# EAGLE library part MPC8250_480PBGA (library MPC8250)
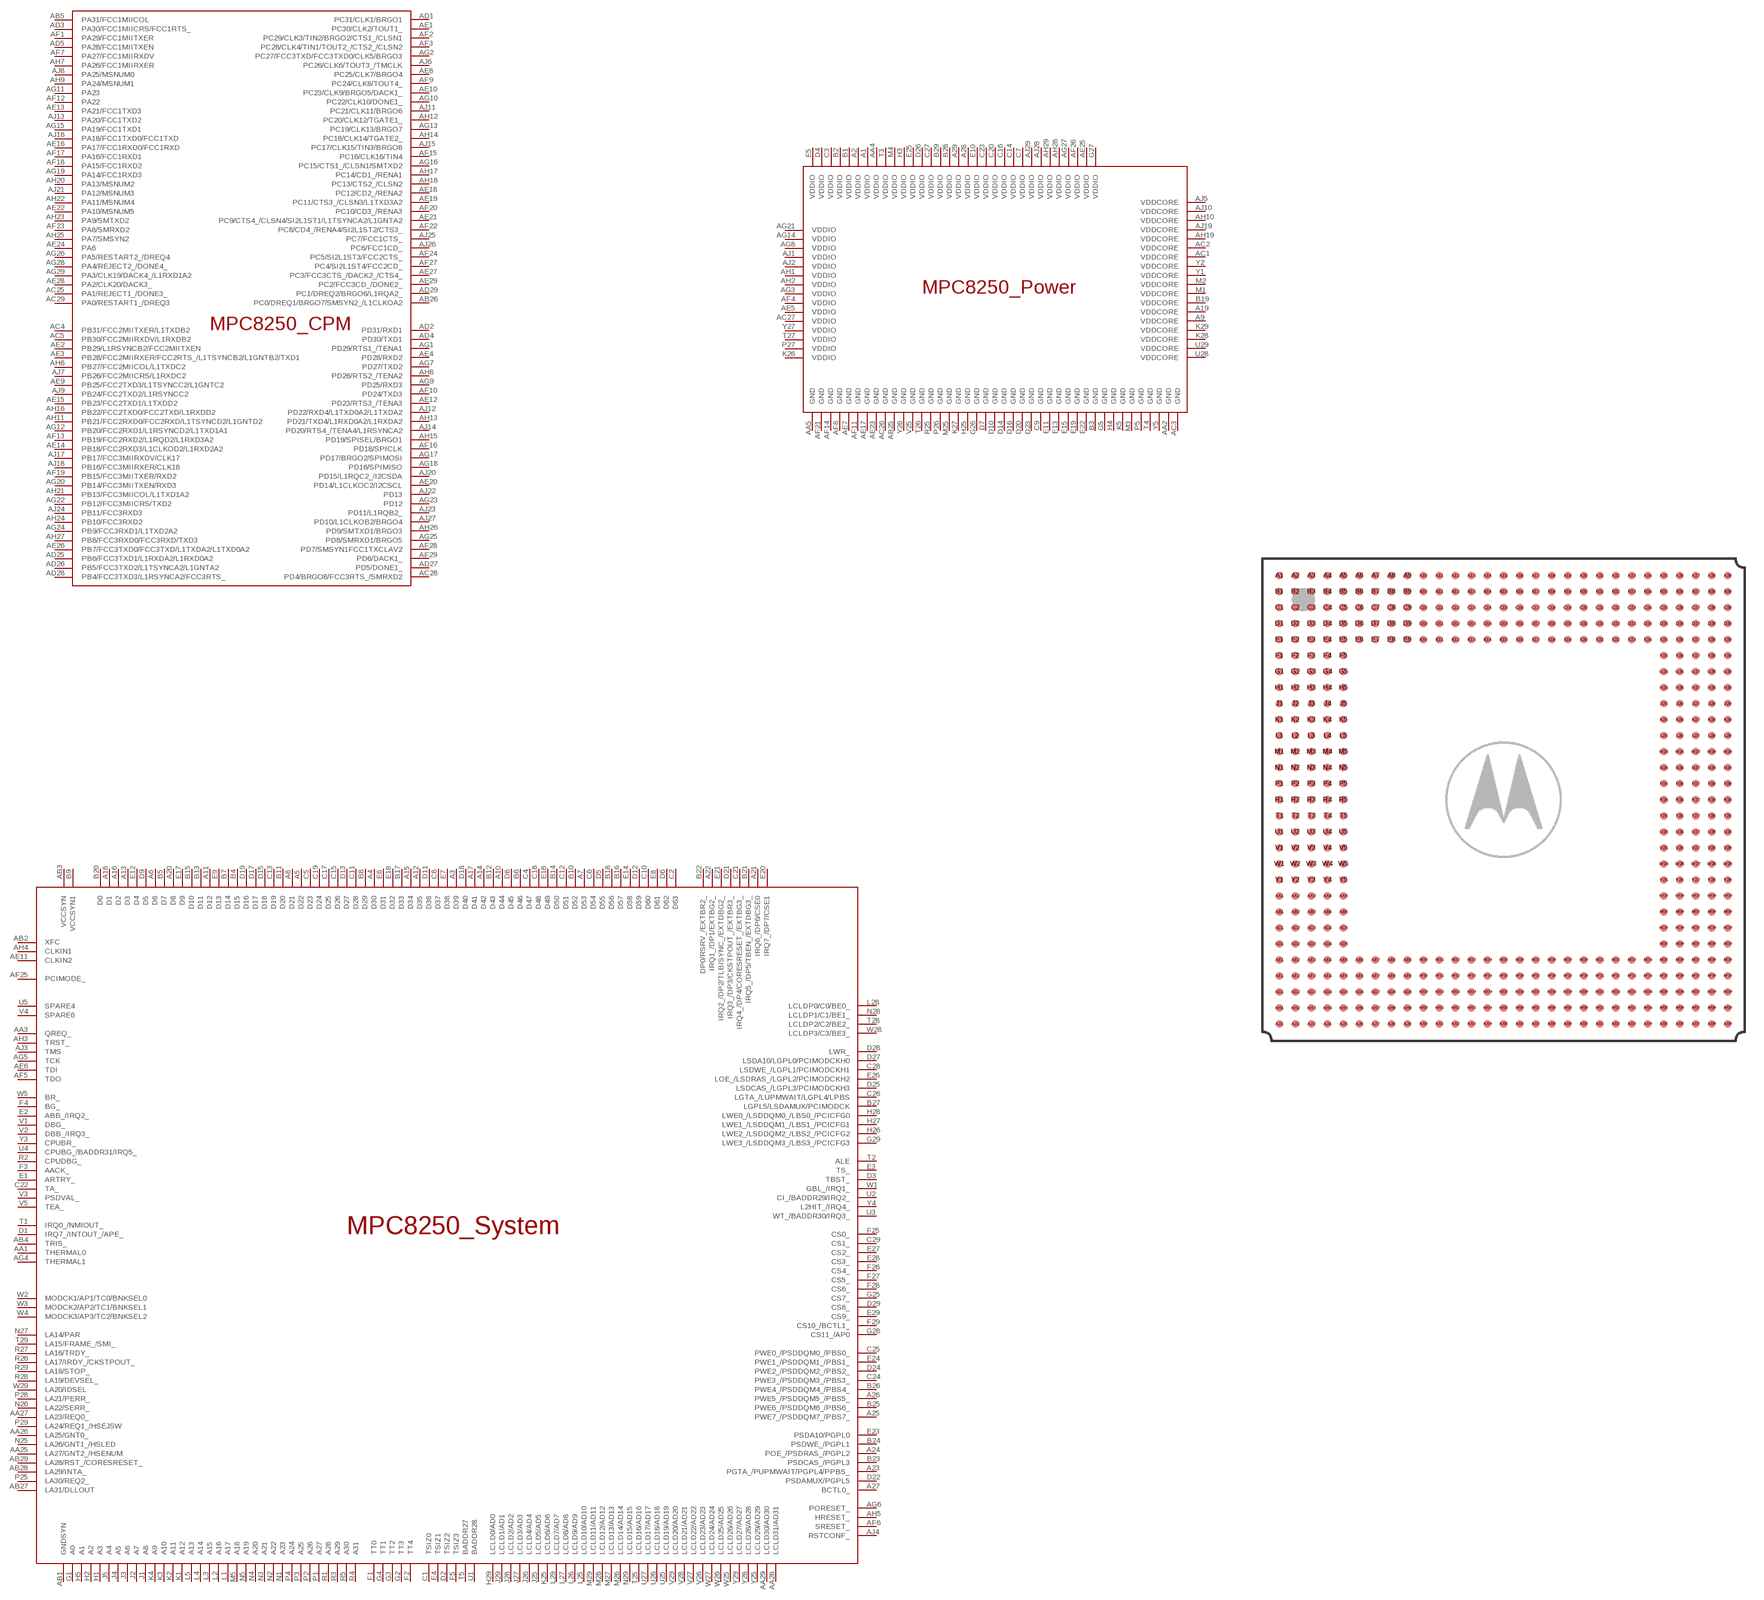
[diagram p0: symbol with the pads of TBGA480; footprint TBGA480]

Designator prefix -; gates SYSTEM=MPC8250 CPM=MPC8250_CPM POWER=MPC8250_POWER

## MPC8250_480PBGA  [TBGA480]
A1  POWER:VDDIO
A2  POWER:VDDIO
A3  SYSTEM:D39
A4  SYSTEM:D30
A5  SYSTEM:D22
A6  SYSTEM:D6
A7  SYSTEM:D53
A8  SYSTEM:D21
A9  POWER:VDDCORE
A10  SYSTEM:D44
A11  SYSTEM:D12
A12  SYSTEM:D35
A13  SYSTEM:D3
A14  SYSTEM:D42
A15  SYSTEM:D34
A16  SYSTEM:D2
A17  SYSTEM:D41
A18  SYSTEM:D1
A19  POWER:VDDCORE
A20  SYSTEM:D8
A21  SYSTEM:IRQ6_/DP6/CSE0
A22  SYSTEM:IRQ1_/DP1/EXTBG2_
A23  SYSTEM:PGTA_/PUPMWAIT/PGPL4/PPBS_
A24  SYSTEM:POE_/PSDRAS_/PGPL2
A25  SYSTEM:PWE7_/PSDDQM7_/PBS7_
A26  SYSTEM:PWE5_/PSDDQM5_/PBS5_
A27  SYSTEM:BCTL0_
A28  POWER:VDDIO
A29  POWER:VDDIO
AA1  SYSTEM:THERMAL0
AA2  POWER:GND
AA3  SYSTEM:QREQ_
AA4  POWER:VDDIO
AA5  POWER:GND
AA25  SYSTEM:LA27/GNT2_/HSENUM
AA26  SYSTEM:LA25/GNT0_
AA27  SYSTEM:LA23/REQ0_
AA28  SYSTEM:LCLD31/AD31
AA29  SYSTEM:LCLD30/AD30
AB1  SYSTEM:GNDSYN
AB2  SYSTEM:XFC
AB3  SYSTEM:VCCSYN
AB4  SYSTEM:TRIS_
AB5  CPM:PA31/FCC1MIICOL
AB25  POWER:GND
AB26  CPM:PC0/DREQ1/BRGO7/SMSYN2_/L1CLKOA2
AB27  SYSTEM:LA31/DLLOUT
AB28  SYSTEM:LA29/INTA_
AB29  SYSTEM:LA28/RST_/CORESRESET_
AC1  POWER:VDDCORE
AC2  POWER:VDDCORE
AC3  POWER:GND
AC4  CPM:PB31/FCC2MIITXER/L1TXDB2
AC5  CPM:PB30/FCC2MIIRXDV/L1RXDB2
AC25  CPM:PA1/REJECT1_/DONE3_
AC26  POWER:GND
AC27  POWER:VDDIO
AC28  CPM:PD4/BRGO8/FCC3RTS_/SMRXD2
AC29  CPM:PA0/RESTART1_/DREQ3
AD1  CPM:PC31/CLK1/BRGO1
AD2  CPM:PD31/RXD1
AD3  CPM:PA30/FCC1MIICRS/FCC1RTS_
AD4  CPM:PD30/TXD1
AD5  CPM:PA28/FCC1MIITXEN
AD25  CPM:PB6/FCC3TXD1/L1RXDA2/L1RXD0A2
AD26  CPM:PB5/FCC3TXD2/L1TSYNCA2/L1GNTA2
AD27  CPM:PD5/DONE1_
AD28  CPM:PB4/FCC3TXD3/L1RSYNCA2/FCC3RTS_
AD29  CPM:PC1/DREQ2/BRGO6/L1RQA2_
AE1  CPM:PC30/CLK2/TOUT1_
AE2  CPM:PB29/L1RSYNCB2/FCC2MIITXEN
AE3  CPM:PB28/FCC2MIIRXER/FCC2RTS_/L1TSYNCB2/L1GNTB2/TXD1
AE4  CPM:PD28/RXD2
AE5  POWER:VDDIO
AE6  SYSTEM:TDI
AE7  POWER:GND
AE8  CPM:PC25/CLK7/BRGO4
AE9  CPM:PB25/FCC2TXD3/L1TSYNCC2/L1GNTC2
AE10  CPM:PC23/CLK9/BRGO5/DACK1_
AE11  SYSTEM:CLKIN2
AE12  CPM:PD23/RTS3_/TENA3
AE13  CPM:PA21/FCC1TXD3
AE14  CPM:PB18/FCC2RXD3/L1CLKOD2/L1RXD2A2
AE15  CPM:PB23/FCC2TXD1/L1TXDD2
AE16  CPM:PA17/FCC1RXD0/FCC1RXD
AE17  POWER:GND
AE18  CPM:PC12/CD2_/RENA2
AE19  CPM:PC11/CTS3_/CLSN3/L1TXD3A2
AE20  CPM:PD14/L1CLKOC2/I2CSCL
AE21  CPM:PC9/CTS4_/CLSN4/SI2L1ST1/L1TSYNCA2/L1GNTA2
AE22  CPM:PA10/MSNUM5
AE23  POWER:GND
AE24  CPM:PA6
AE25  POWER:VDDIO
AE26  CPM:PB7/FCC3TXD0/FCC3TXD/L1TXDA2/L1TXD0A2
AE27  CPM:PC3/FCC3CTS_/DACK2_/CTS4_
AE28  CPM:PA2/CLK20/DACK3_
AE29  CPM:PC2/FCC3CD_/DONE2_
AF1  CPM:PA29/FCC1MIITXER
AF2  CPM:PC29/CLK3/TIN2/BRGO2/CTS1_/CLSN1
AF3  CPM:PC28/CLK4/TIN1/TOUT2_/CTS2_/CLSN2
AF4  POWER:VDDIO
AF5  SYSTEM:TDO
AF6  SYSTEM:SRESET_
AF7  CPM:PA27/FCC1MIIRXDV
AF8  POWER:GND
AF9  CPM:PC24/CLK8/TOUT4_
AF10  CPM:PD24/TXD3
AF11  POWER:GND
AF12  CPM:PA22
AF13  CPM:PB19/FCC2RXD2/L1RQD2/L1RXD3A2
AF14  POWER:GND
AF15  CPM:PC16/CLK16/TIN4
AF16  CPM:PD18/SPICLK
AF17  CPM:PA16/FCC1RXD1
AF18  CPM:PA15/FCC1RXD2
AF19  CPM:PB15/FCC3MIITXER/RXD2
AF20  CPM:PC10/CD3_/RENA3
AF21  POWER:GND
AF22  CPM:PC8/CD4_/RENA4/SI2L1ST2/CTS3_
AF23  CPM:PA8/SMRXD2
AF24  CPM:PC5/SI2L1ST3/FCC2CTS_
AF25  SYSTEM:PCIMODE_
AF26  POWER:VDDIO
AF27  CPM:PC4/SI2L1ST4/FCC2CD_
AF28  CPM:PD7/SMSYN1FCC1TXCLAV2
AF29  CPM:PD6/DACK1_
AG1  CPM:PD29/RTS1_/TENA1
AG2  CPM:PC27/FCC3TXD/FCC3TXD0/CLK5/BRGO3
AG3  POWER:VDDIO
AG4  SYSTEM:THERMAL1
AG5  SYSTEM:TCK
AG6  SYSTEM:PORESET_
AG7  CPM:PD27/TXD2
AG8  POWER:VDDIO
AG9  CPM:PD25/RXD3
AG10  CPM:PC22/CLK10/DONE1_
AG11  CPM:PA23
AG12  CPM:PB20/FCC2RXD1/L1RSYNCD2/L1TXD1A1
AG13  CPM:PC19/CLK13/BRGO7
AG14  POWER:VDDIO
AG15  CPM:PA19/FCC1TXD1
AG16  CPM:PC15/CTS1_/CLSN1/SMTXD2
AG17  CPM:PD17/BRGO2/SPIMOSI
AG18  CPM:PD16/SPIMISO
AG19  CPM:PA14/FCC1RXD3
AG20  CPM:PB14/FCC3MIITXEN/RXD3
AG21  POWER:VDDIO
AG22  CPM:PB12/FCC3MIICRS/TXD2
AG23  CPM:PD12
AG24  CPM:PB9/FCC3RXD1/L1TXD2A2
AG25  CPM:PD8/SMRXD1/BRGO5
AG26  CPM:PA5/RESTART2_/DREQ4
AG27  POWER:VDDIO
AG28  CPM:PA4/REJECT2_/DONE4_
AG29  CPM:PA3/CLK19/DACK4_/L1RXD1A2
AH1  POWER:VDDIO
AH2  POWER:VDDIO
AH3  SYSTEM:TRST_
AH4  SYSTEM:CLKIN1
AH5  SYSTEM:HRESET_
AH6  CPM:PB27/FCC2MIICOL/L1TXDC2
AH7  CPM:PA26/FCC1MIIRXER
AH8  CPM:PD26/RTS2_/TENA2
AH9  CPM:PA24/MSNUM1
AH10  POWER:VDDCORE
AH11  CPM:PB21/FCC2RXD0/FCC2RXD/L1TSYNCD2/L1GNTD2
AH12  CPM:PC20/CLK12/TGATE1_
AH13  CPM:PD21/TXD4/L1RXD0A2/L1RXDA2
AH14  CPM:PC18/CLK14/TGATE2_
AH15  CPM:PD19/SPISEL/BRGO1
AH16  CPM:PB22/FCC2TXD0/FCC2TXD/L1RXDD2
AH17  CPM:PC14/CD1_/RENA1
AH18  CPM:PC13/CTS2_/CLSN2
AH19  POWER:VDDCORE
AH20  CPM:PA13/MSNUM2
AH21  CPM:PB13/FCC3MIICOL/L1TXD1A2
AH22  CPM:PA11/MSNUM4
AH23  CPM:PA9/SMTXD2
AH24  CPM:PB10/FCC3RXD2
AH25  CPM:PA7/SMSYN2
AH26  CPM:PD9/SMTXD1/BRGO3
AH27  CPM:PB8/FCC3RXD0/FCC3RXD/TXD3
AH28  POWER:VDDIO
AH29  POWER:VDDIO
AJ1  POWER:VDDIO
AJ2  POWER:VDDIO
AJ3  SYSTEM:TMS
AJ4  SYSTEM:RSTCONF_
AJ5  POWER:VDDCORE
AJ6  CPM:PC26/CLK6/TOUT3_/TMCLK
AJ7  CPM:PB26/FCC2MIICRS/L1RXDC2
AJ8  CPM:PA25/MSNUM0
AJ9  CPM:PB24/FCC2TXD2/L1RSYNCC2
AJ10  POWER:VDDCORE
AJ11  CPM:PC21/CLK11/BRGO6
AJ12  CPM:PD22/RXD4/L1TXD0A2/L1TXDA2
AJ13  CPM:PA20/FCC1TXD2
AJ14  CPM:PD20/RTS4_/TENA4/L1RSYNCA2
AJ15  CPM:PC17/CLK15/TIN3/BRGO8
AJ16  CPM:PA18/FCC1TXD0/FCC1TXD
AJ17  CPM:PB17/FCC3MIIRXDV/CLK17
AJ18  CPM:PB16/FCC3MIIRXER/CLK18
AJ19  POWER:VDDCORE
AJ20  CPM:PD15/L1RQC2_/I2CSDA
AJ21  CPM:PA12/MSNUM3
AJ22  CPM:PD13
AJ23  CPM:PD11/L1RQB2_
AJ24  CPM:PB11/FCC3RXD3
AJ25  CPM:PC7/FCC1CTS_
AJ26  CPM:PC6/FCC1CD_
AJ27  CPM:PD10/L1CLKOB2/BRGO4
AJ28  POWER:VDDIO
AJ29  POWER:VDDIO
B1  POWER:VDDIO
B2  POWER:VDDIO
B3  POWER:GND
B4  SYSTEM:D15
B5  SYSTEM:D7
B6  SYSTEM:D46
B7  SYSTEM:D14
B8  SYSTEM:D29
B9  SYSTEM:VCCSYN1
B10  SYSTEM:D52
B11  SYSTEM:D20
B12  SYSTEM:D43
B13  SYSTEM:D11
B14  SYSTEM:D50
B15  SYSTEM:D10
B16  SYSTEM:D57
B17  SYSTEM:D33
B18  SYSTEM:D56
B19  POWER:VDDCORE
B20  SYSTEM:D0
B21  SYSTEM:IRQ5_/DP5/TBEN_/EXTDBG3_
B22  SYSTEM:DP0/RSRV_/EXTBR2_
B23  SYSTEM:PSDCAS_/PGPL3
B24  SYSTEM:PSDWE_/PGPL1
B25  SYSTEM:PWE6_/PSDDQM6_/PBS6_
B26  SYSTEM:PWE4_/PSDDQM4_/PBS4_
B27  SYSTEM:LGPL5/LSDAMUX/PCIMODCK
B28  POWER:VDDIO
B29  POWER:VDDIO
C1  SYSTEM:TSIZ0
C2  SYSTEM:D63
C3  POWER:VDDIO
C4  SYSTEM:D47
C5  SYSTEM:D23
C6  SYSTEM:D54
C7  POWER:VDDIO
C8  SYSTEM:D37
C9  POWER:GND
C10  SYSTEM:D60
C11  SYSTEM:D28
C12  SYSTEM:D51
C13  SYSTEM:D19
C14  POWER:VDDIO
C15  SYSTEM:D26
C16  POWER:VDDIO
C17  SYSTEM:D25
C18  SYSTEM:D48
C19  SYSTEM:D24
C20  POWER:VDDIO
C21  SYSTEM:IRQ4_/DP4/CORESRESET_/EXTBG3_
C22  SYSTEM:TA_
C23  POWER:VDDIO
C24  SYSTEM:PWE3_/PSDDQM3_/PBS3_
C25  SYSTEM:PWE0_/PSDDQM0_/PBS0_
C26  SYSTEM:LGTA_/LUPMWAIT/LGPL4/LPBS
C27  POWER:VDDIO
C28  SYSTEM:LSDWE_/LGPL1/PCIMODCKH1
C29  SYSTEM:CS1_
D1  SYSTEM:IRQ7_/INTOUT_/APE_
D2  SYSTEM:TSIZ2
D3  SYSTEM:TBST_
D4  POWER:VDDIO
D5  SYSTEM:D55
D6  SYSTEM:D62
D7  POWER:GND
D8  SYSTEM:D45
D9  SYSTEM:D5
D10  POWER:GND
D11  SYSTEM:D36
D12  SYSTEM:D59
D13  SYSTEM:D27
D14  POWER:GND
D15  SYSTEM:D18
D16  POWER:GND
D17  SYSTEM:D17
D18  SYSTEM:D40
D19  SYSTEM:D16
D20  POWER:GND
D21  SYSTEM:IRQ3_/DP3/CKSTPOUT_/EXTBR3_
D22  SYSTEM:PSDAMUX/PGPL5
D23  POWER:GND
D24  SYSTEM:PWE2_/PSDDQM2_/PBS2_
D25  SYSTEM:LSDCAS_/LGPL3/PCIMODCKH3
D26  POWER:VDDIO
D27  SYSTEM:LSDA10/LGPL0/PCIMODCKH0
D28  SYSTEM:LWR_
D29  SYSTEM:CS8_
E1  SYSTEM:ARTRY_
E2  SYSTEM:ABB_/IRQ2_
E3  SYSTEM:TS_
E4  SYSTEM:TSIZ1
E5  POWER:VDDIO
E6  SYSTEM:D31
E7  SYSTEM:D38
E8  SYSTEM:D61
E9  SYSTEM:D13
E10  POWER:VDDIO
E11  POWER:GND
E12  SYSTEM:D4
E13  POWER:GND
E14  SYSTEM:D58
E15  POWER:GND
E16  SYSTEM:D49
E17  SYSTEM:D9
E18  SYSTEM:D32
E19  POWER:GND
E20  SYSTEM:IRQ7_/DP7/CSE1
E21  SYSTEM:IRQ2_/DP2/TLBISYNC_/EXTDBG2_
E22  POWER:GND
E23  SYSTEM:PSDA10/PGPL0
E24  SYSTEM:PWE1_/PSDDQM1_/PBS1_
E25  POWER:VDDIO
E26  SYSTEM:LOE_/LSDRAS_/LGPL2/PCIMODCKH2
E27  SYSTEM:CS2_
E28  SYSTEM:CS3_
E29  SYSTEM:CS9_
F1  SYSTEM:TT0
F2  SYSTEM:TT4
F3  SYSTEM:AACK_
F4  SYSTEM:BG_
F5  SYSTEM:TSIZ3
F25  SYSTEM:CS0_
F26  SYSTEM:CS4_
F27  SYSTEM:CS5_
F28  SYSTEM:CS6_
F29  SYSTEM:CS10_/BCTL1_
G1  SYSTEM:A0
G2  SYSTEM:TT3
G3  SYSTEM:TT2
G4  SYSTEM:TT1
G5  POWER:GND
G25  SYSTEM:CS7_
G26  POWER:GND
G27  POWER:VDDIO
G28  SYSTEM:CS11_/AP0
G29  SYSTEM:LWE3_/LSDDQM3_/LBS3_/PCICFG3
H1  SYSTEM:A3
H2  SYSTEM:A2
H3  POWER:VDDIO
H4  POWER:GND
H5  SYSTEM:A1
H25  POWER:GND
H26  SYSTEM:LWE2_/LSDDQM2_/LBS2_/PCICFG2
H27  SYSTEM:LWE1_/LSDDQM1_/LBS1_/PCICFG1
H28  SYSTEM:LWE0_/LSDDQM0_/LBS0_/PCICFG0
H29  SYSTEM:LCLD0/AD0
J1  SYSTEM:A8
J2  SYSTEM:A7
J3  SYSTEM:A6
J4  SYSTEM:A5
J5  SYSTEM:A4
J25  SYSTEM:LCLD5/AD5
J26  SYSTEM:LCLD4/AD4
J27  SYSTEM:LCLD3/AD3
J28  SYSTEM:LCLD2/AD2
J29  SYSTEM:LCLD1/AD1
K1  SYSTEM:A12
K2  SYSTEM:A11
K3  SYSTEM:A10
K4  SYSTEM:A9
K5  POWER:GND
K25  SYSTEM:LCLD6/AD6
K26  POWER:VDDIO
K27  POWER:GND
K28  POWER:VDDCORE
K29  POWER:VDDCORE
L1  SYSTEM:A17
L2  SYSTEM:A16
L3  SYSTEM:A15
L4  SYSTEM:A14
L5  SYSTEM:A13
L25  SYSTEM:LCLD10/AD10
L26  SYSTEM:LCLD9/AD9
L27  SYSTEM:LCLD8/AD8
L28  SYSTEM:LCLDP0/C0/BE0_
L29  SYSTEM:LCLD7/AD7
M1  POWER:VDDCORE
M2  POWER:VDDCORE
M3  POWER:GND
M4  POWER:VDDIO
M5  SYSTEM:A18
M25  POWER:GND
M26  SYSTEM:LCLD14/AD14
M27  SYSTEM:LCLD13/AD13
M28  SYSTEM:LCLD12/AD12
M29  SYSTEM:LCLD11/AD11
N1  SYSTEM:A23
N2  SYSTEM:A22
N3  SYSTEM:A21
N4  SYSTEM:A20
N5  SYSTEM:A19
N25  SYSTEM:LA26/GNT1_/HSLED
N26  SYSTEM:LA22/SERR_
N27  SYSTEM:LA14/PAR
N28  SYSTEM:LCLDP1/C1/BE1_
N29  SYSTEM:LCLD15/AD15
P1  SYSTEM:A27
P2  SYSTEM:A26
P3  SYSTEM:A25
P4  SYSTEM:A24
P5  POWER:GND
P25  SYSTEM:LA30/REQ2_
P26  POWER:GND
P27  POWER:VDDIO
P28  SYSTEM:LA21/PERR_
P29  SYSTEM:LA24/REQ1_/HSEJSW
R1  SYSTEM:A28
R2  SYSTEM:CPUDBG_
R3  SYSTEM:A29
R4  SYSTEM:A31
R5  SYSTEM:A30
R25  POWER:GND
R26  SYSTEM:LA17/IRDY_/CKSTPOUT_
R27  SYSTEM:LA16/TRDY_
R28  SYSTEM:LA19/DEVSEL_
R29  SYSTEM:LA18/STOP_
T1  SYSTEM:IRQ0_/NMIOUT_
T2  SYSTEM:ALE
T3  POWER:VDDIO
T4  POWER:GND
T5  SYSTEM:BADDR27
T25  SYSTEM:LCLD16/AD16
T26  POWER:GND
T27  POWER:VDDIO
T28  SYSTEM:LCLDP2/C2/BE2_
T29  SYSTEM:LA15/FRAME_/SMI_
U1  SYSTEM:BADDR28
U2  SYSTEM:CI_/BADDR29/IRQ2_
U3  SYSTEM:WT_/BADDR30/IRQ3_
U4  SYSTEM:CPUBG_/BADDR31/IRQ5_
U5  SYSTEM:SPARE4
U25  SYSTEM:LCLD19/AD19
U26  SYSTEM:LCLD18/AD18
U27  SYSTEM:LCLD17/AD17
U28  POWER:VDDCORE
U29  POWER:VDDCORE
V1  SYSTEM:DBG_
V2  SYSTEM:DBB_/IRQ3_
V3  SYSTEM:PSDVAL_
V4  SYSTEM:SPARE6
V5  SYSTEM:TEA_
V25  POWER:GND
V26  SYSTEM:LCLD23/AD23
V27  SYSTEM:LCLD22/AD22
V28  SYSTEM:LCLD21/AD21
V29  SYSTEM:LCLD20/AD20
W1  SYSTEM:GBL_/IRQ1_
W2  SYSTEM:MODCK1/AP1/TC0/BNKSEL0
W3  SYSTEM:MODCK2/AP2/TC1/BNKSEL1
W4  SYSTEM:MODCK3/AP3/TC2/BNKSEL2
W5  SYSTEM:BR_
W25  SYSTEM:LCLD26/AD26
W26  SYSTEM:LCLD25/AD25
W27  SYSTEM:LCLD24/AD24
W28  SYSTEM:LCLDP3/C3/BE3_
W29  SYSTEM:LA20/IDSEL
Y1  POWER:VDDCORE
Y2  POWER:VDDCORE
Y3  SYSTEM:CPUBR_
Y4  SYSTEM:L2HIT_/IRQ4_
Y5  POWER:GND
Y25  SYSTEM:LCLD29/AD29
Y26  POWER:GND
Y27  POWER:VDDIO
Y28  SYSTEM:LCLD28/AD28
Y29  SYSTEM:LCLD27/AD27

## Footprint TBGA480 (pad centres in mm)
smd 0.584 x 0.584: A1 -10.795,9.525; A2 -9.525,9.525; A3 -8.255,9.525; A4 -6.985,9.525; A5 -5.715,9.525; A6 -4.445,9.525; A7 -3.175,9.525; A8 -1.905,9.525; A9 -0.635,9.525; A10 0.635,9.525; A11 1.905,9.525; A12 3.175,9.525; A13 4.445,9.525; A14 5.715,9.525; A15 6.985,9.525; A16 8.255,9.525; A17 9.525,9.525; A18 10.795,9.525; A19 12.065,9.525; A20 13.335,9.525; A21 14.605,9.525; A22 15.875,9.525; A23 17.145,9.525; A24 18.415,9.525; A25 19.685,9.525; A26 20.955,9.525; A27 22.225,9.525; A28 23.495,9.525; A29 24.765,9.525; AA1 -10.795,-15.875; AA2 -9.525,-15.875; AA3 -8.255,-15.875; AA4 -6.985,-15.875; AA5 -5.715,-15.875; AA25 19.685,-15.875; AA26 20.955,-15.875; AA27 22.225,-15.875; AA28 23.495,-15.875; AA29 24.765,-15.875; AB1 -10.795,-17.145; AB2 -9.525,-17.145; AB3 -8.255,-17.145; AB4 -6.985,-17.145; AB5 -5.715,-17.145; AB25 19.685,-17.145; AB26 20.955,-17.145; AB27 22.225,-17.145; AB28 23.495,-17.145; AB29 24.765,-17.145; AC1 -10.795,-18.415; AC2 -9.525,-18.415; AC3 -8.255,-18.415; AC4 -6.985,-18.415; AC5 -5.715,-18.415; AC25 19.685,-18.415; AC26 20.955,-18.415; AC27 22.225,-18.415; AC28 23.495,-18.415; AC29 24.765,-18.415; AD1 -10.795,-19.685; AD2 -9.525,-19.685; AD3 -8.255,-19.685; AD4 -6.985,-19.685; AD5 -5.715,-19.685; AD25 19.685,-19.685; AD26 20.955,-19.685; AD27 22.225,-19.685; AD28 23.495,-19.685; AD29 24.765,-19.685; AE1 -10.795,-20.955; AE2 -9.525,-20.955; AE3 -8.255,-20.955; AE4 -6.985,-20.955; AE5 -5.715,-20.955; AE6 -4.445,-20.955; AE7 -3.175,-20.955; AE8 -1.905,-20.955; AE9 -0.635,-20.955; AE10 0.635,-20.955; AE11 1.905,-20.955; AE12 3.175,-20.955; AE13 4.445,-20.955; AE14 5.715,-20.955; AE15 6.985,-20.955; AE16 8.255,-20.955; AE17 9.525,-20.955; AE18 10.795,-20.955; AE19 12.065,-20.955; AE20 13.335,-20.955; AE21 14.605,-20.955; AE22 15.875,-20.955; AE23 17.145,-20.955; AE24 18.415,-20.955; AE25 19.685,-20.955; AE26 20.955,-20.955; AE27 22.225,-20.955; AE28 23.495,-20.955; AE29 24.765,-20.955; AF1 -10.795,-22.225; AF2 -9.525,-22.225; AF3 -8.255,-22.225; AF4 -6.985,-22.225; AF5 -5.715,-22.225; AF6 -4.445,-22.225; AF7 -3.175,-22.225; AF8 -1.905,-22.225; AF9 -0.635,-22.225; AF10 0.635,-22.225; AF11 1.905,-22.225; AF12 3.175,-22.225; AF13 4.445,-22.225; AF14 5.715,-22.225; AF15 6.985,-22.225; AF16 8.255,-22.225; AF17 9.525,-22.225; AF18 10.795,-22.225; AF19 12.065,-22.225; AF20 13.335,-22.225; AF21 14.605,-22.225; AF22 15.875,-22.225; AF23 17.145,-22.225; AF24 18.415,-22.225; AF25 19.685,-22.225; AF26 20.955,-22.225; AF27 22.225,-22.225; AF28 23.495,-22.225; AF29 24.765,-22.225; AG1 -10.795,-23.495; AG2 -9.525,-23.495; AG3 -8.255,-23.495; AG4 -6.985,-23.495; AG5 -5.715,-23.495; AG6 -4.445,-23.495; AG7 -3.175,-23.495; AG8 -1.905,-23.495; AG9 -0.635,-23.495; AG10 0.635,-23.495; AG11 1.905,-23.495; AG12 3.175,-23.495; AG13 4.445,-23.495; AG14 5.715,-23.495; AG15 6.985,-23.495; AG16 8.255,-23.495; AG17 9.525,-23.495; AG18 10.795,-23.495; AG19 12.065,-23.495; AG20 13.335,-23.495; AG21 14.605,-23.495; AG22 15.875,-23.495; AG23 17.145,-23.495; AG24 18.415,-23.495; AG25 19.685,-23.495; AG26 20.955,-23.495; AG27 22.225,-23.495; AG28 23.495,-23.495; AG29 24.765,-23.495; AH1 -10.795,-24.765; AH2 -9.525,-24.765; AH3 -8.255,-24.765; AH4 -6.985,-24.765; AH5 -5.715,-24.765; AH6 -4.445,-24.765; AH7 -3.175,-24.765; AH8 -1.905,-24.765; AH9 -0.635,-24.765; AH10 0.635,-24.765; AH11 1.905,-24.765; AH12 3.175,-24.765; AH13 4.445,-24.765; AH14 5.715,-24.765; AH15 6.985,-24.765; AH16 8.255,-24.765; AH17 9.525,-24.765; AH18 10.795,-24.765; AH19 12.065,-24.765; AH20 13.335,-24.765; AH21 14.605,-24.765; AH22 15.875,-24.765; AH23 17.145,-24.765; AH24 18.415,-24.765; AH25 19.685,-24.765; AH26 20.955,-24.765; AH27 22.225,-24.765; AH28 23.495,-24.765; AH29 24.765,-24.765; AJ1 -10.795,-26.035; AJ2 -9.525,-26.035; AJ3 -8.255,-26.035; AJ4 -6.985,-26.035; AJ5 -5.715,-26.035; AJ6 -4.445,-26.035; AJ7 -3.175,-26.035; AJ8 -1.905,-26.035; AJ9 -0.635,-26.035; AJ10 0.635,-26.035; AJ11 1.905,-26.035; AJ12 3.175,-26.035; AJ13 4.445,-26.035; AJ14 5.715,-26.035; AJ15 6.985,-26.035; AJ16 8.255,-26.035; AJ17 9.525,-26.035; AJ18 10.795,-26.035; AJ19 12.065,-26.035; AJ20 13.335,-26.035; AJ21 14.605,-26.035; AJ22 15.875,-26.035; AJ23 17.145,-26.035; AJ24 18.415,-26.035; AJ25 19.685,-26.035; AJ26 20.955,-26.035; AJ27 22.225,-26.035; AJ28 23.495,-26.035; AJ29 24.765,-26.035; B1 -10.795,8.255; B2 -9.525,8.255; B3 -8.255,8.255; B4 -6.985,8.255; B5 -5.715,8.255; B6 -4.445,8.255; B7 -3.175,8.255; B8 -1.905,8.255; B9 -0.635,8.255; B10 0.635,8.255; B11 1.905,8.255; B12 3.175,8.255; B13 4.445,8.255; B14 5.715,8.255; B15 6.985,8.255; B16 8.255,8.255; B17 9.525,8.255; B18 10.795,8.255; B19 12.065,8.255; B20 13.335,8.255; B21 14.605,8.255; B22 15.875,8.255; B23 17.145,8.255; B24 18.415,8.255; B25 19.685,8.255; B26 20.955,8.255; B27 22.225,8.255; B28 23.495,8.255; B29 24.765,8.255; C1 -10.795,6.985; C2 -9.525,6.985; C3 -8.255,6.985; C4 -6.985,6.985; C5 -5.715,6.985; C6 -4.445,6.985; C7 -3.175,6.985; C8 -1.905,6.985; C9 -0.635,6.985; C10 0.635,6.985; C11 1.905,6.985; C12 3.175,6.985; C13 4.445,6.985; C14 5.715,6.985; C15 6.985,6.985; C16 8.255,6.985; C17 9.525,6.985; C18 10.795,6.985; C19 12.065,6.985; C20 13.335,6.985; C21 14.605,6.985; C22 15.875,6.985; C23 17.145,6.985; C24 18.415,6.985; C25 19.685,6.985; C26 20.955,6.985; C27 22.225,6.985; C28 23.495,6.985; C29 24.765,6.985; D1 -10.795,5.715; D2 -9.525,5.715; D3 -8.255,5.715; D4 -6.985,5.715; D5 -5.715,5.715; D6 -4.445,5.715; D7 -3.175,5.715; D8 -1.905,5.715; D9 -0.635,5.715; D10 0.635,5.715; D11 1.905,5.715; D12 3.175,5.715; D13 4.445,5.715; D14 5.715,5.715; D15 6.985,5.715; D16 8.255,5.715; D17 9.525,5.715; D18 10.795,5.715; D19 12.065,5.715; D20 13.335,5.715; D21 14.605,5.715; D22 15.875,5.715; D23 17.145,5.715; D24 18.415,5.715; D25 19.685,5.715; D26 20.955,5.715; D27 22.225,5.715; D28 23.495,5.715; D29 24.765,5.715; E1 -10.795,4.445; E2 -9.525,4.445; E3 -8.255,4.445; E4 -6.985,4.445; E5 -5.715,4.445; E6 -4.445,4.445; E7 -3.175,4.445; E8 -1.905,4.445; E9 -0.635,4.445; E10 0.635,4.445; E11 1.905,4.445; E12 3.175,4.445; E13 4.445,4.445; E14 5.715,4.445; E15 6.985,4.445; E16 8.255,4.445; E17 9.525,4.445; E18 10.795,4.445; E19 12.065,4.445; E20 13.335,4.445; E21 14.605,4.445; E22 15.875,4.445; E23 17.145,4.445; E24 18.415,4.445; E25 19.685,4.445; E26 20.955,4.445; E27 22.225,4.445; E28 23.495,4.445; E29 24.765,4.445; F1 -10.795,3.175; F2 -9.525,3.175; F3 -8.255,3.175; F4 -6.985,3.175; F5 -5.715,3.175; F25 19.685,3.175; F26 20.955,3.175; F27 22.225,3.175; F28 23.495,3.175; F29 24.765,3.175; G1 -10.795,1.905; G2 -9.525,1.905; G3 -8.255,1.905; G4 -6.985,1.905; G5 -5.715,1.905; G25 19.685,1.905; G26 20.955,1.905; G27 22.225,1.905; G28 23.495,1.905; G29 24.765,1.905; H1 -10.795,0.635; H2 -9.525,0.635; H3 -8.255,0.635; H4 -6.985,0.635; H5 -5.715,0.635; H25 19.685,0.635; H26 20.955,0.635; H27 22.225,0.635; H28 23.495,0.635; H29 24.765,0.635; J1 -10.795,-0.635; J2 -9.525,-0.635; J3 -8.255,-0.635; J4 -6.985,-0.635; J5 -5.715,-0.635; J25 19.685,-0.635; J26 20.955,-0.635; J27 22.225,-0.635; J28 23.495,-0.635; J29 24.765,-0.635; K1 -10.795,-1.905; K2 -9.525,-1.905; K3 -8.255,-1.905; K4 -6.985,-1.905; K5 -5.715,-1.905; K25 19.685,-1.905; K26 20.955,-1.905; K27 22.225,-1.905; K28 23.495,-1.905; K29 24.765,-1.905; L1 -10.795,-3.175; L2 -9.525,-3.175; L3 -8.255,-3.175; L4 -6.985,-3.175; L5 -5.715,-3.175; L25 19.685,-3.175; L26 20.955,-3.175; L27 22.225,-3.175; L28 23.495,-3.175; L29 24.765,-3.175; M1 -10.795,-4.445; M2 -9.525,-4.445; M3 -8.255,-4.445; M4 -6.985,-4.445; M5 -5.715,-4.445; M25 19.685,-4.445; M26 20.955,-4.445; M27 22.225,-4.445; M28 23.495,-4.445; M29 24.765,-4.445; N1 -10.795,-5.715; N2 -9.525,-5.715; N3 -8.255,-5.715; N4 -6.985,-5.715; N5 -5.715,-5.715; N25 19.685,-5.715; N26 20.955,-5.715; N27 22.225,-5.715; N28 23.495,-5.715; N29 24.765,-5.715; P1 -10.795,-6.985; P2 -9.525,-6.985; P3 -8.255,-6.985; P4 -6.985,-6.985; P5 -5.715,-6.985; P25 19.685,-6.985; P26 20.955,-6.985; P27 22.225,-6.985; P28 23.495,-6.985; P29 24.765,-6.985; R1 -10.795,-8.255; R2 -9.525,-8.255; R3 -8.255,-8.255; R4 -6.985,-8.255; R5 -5.715,-8.255; R25 19.685,-8.255; R26 20.955,-8.255; R27 22.225,-8.255; R28 23.495,-8.255; R29 24.765,-8.255; T1 -10.795,-9.525; T2 -9.525,-9.525; T3 -8.255,-9.525; T4 -6.985,-9.525; T5 -5.715,-9.525; T25 19.685,-9.525; T26 20.955,-9.525; T27 22.225,-9.525; T28 23.495,-9.525; T29 24.765,-9.525; U1 -10.795,-10.795; U2 -9.525,-10.795; U3 -8.255,-10.795; U4 -6.985,-10.795; U5 -5.715,-10.795; U25 19.685,-10.795; U26 20.955,-10.795; U27 22.225,-10.795; U28 23.495,-10.795; U29 24.765,-10.795; V1 -10.795,-12.065; V2 -9.525,-12.065; V3 -8.255,-12.065; V4 -6.985,-12.065; V5 -5.715,-12.065; V25 19.685,-12.065; V26 20.955,-12.065; V27 22.225,-12.065; V28 23.495,-12.065; V29 24.765,-12.065; W1 -10.795,-13.335; W2 -9.525,-13.335; W3 -8.255,-13.335; W4 -6.985,-13.335; W5 -5.715,-13.335; W25 19.685,-13.335; W26 20.955,-13.335; W27 22.225,-13.335; W28 23.495,-13.335; W29 24.765,-13.335; Y1 -10.795,-14.605; Y2 -9.525,-14.605; Y3 -8.255,-14.605; Y4 -6.985,-14.605; Y5 -5.715,-14.605; Y25 19.685,-14.605; Y26 20.955,-14.605; Y27 22.225,-14.605; Y28 23.495,-14.605; Y29 24.765,-14.605